# Altium footprint library VioletofSun.PcbLib: 319 footprints (part 14 of 20)
Each footprint in its own frame and in the unit in brackets; x right, y up, seen from the top. Pads: shape width x height; smd on the part's side, far side on the other; paste and mask are expansions set on the pad; w line width, h text height; cw(c..) or ccw(c..) is an arc to the next point about the centre after c.
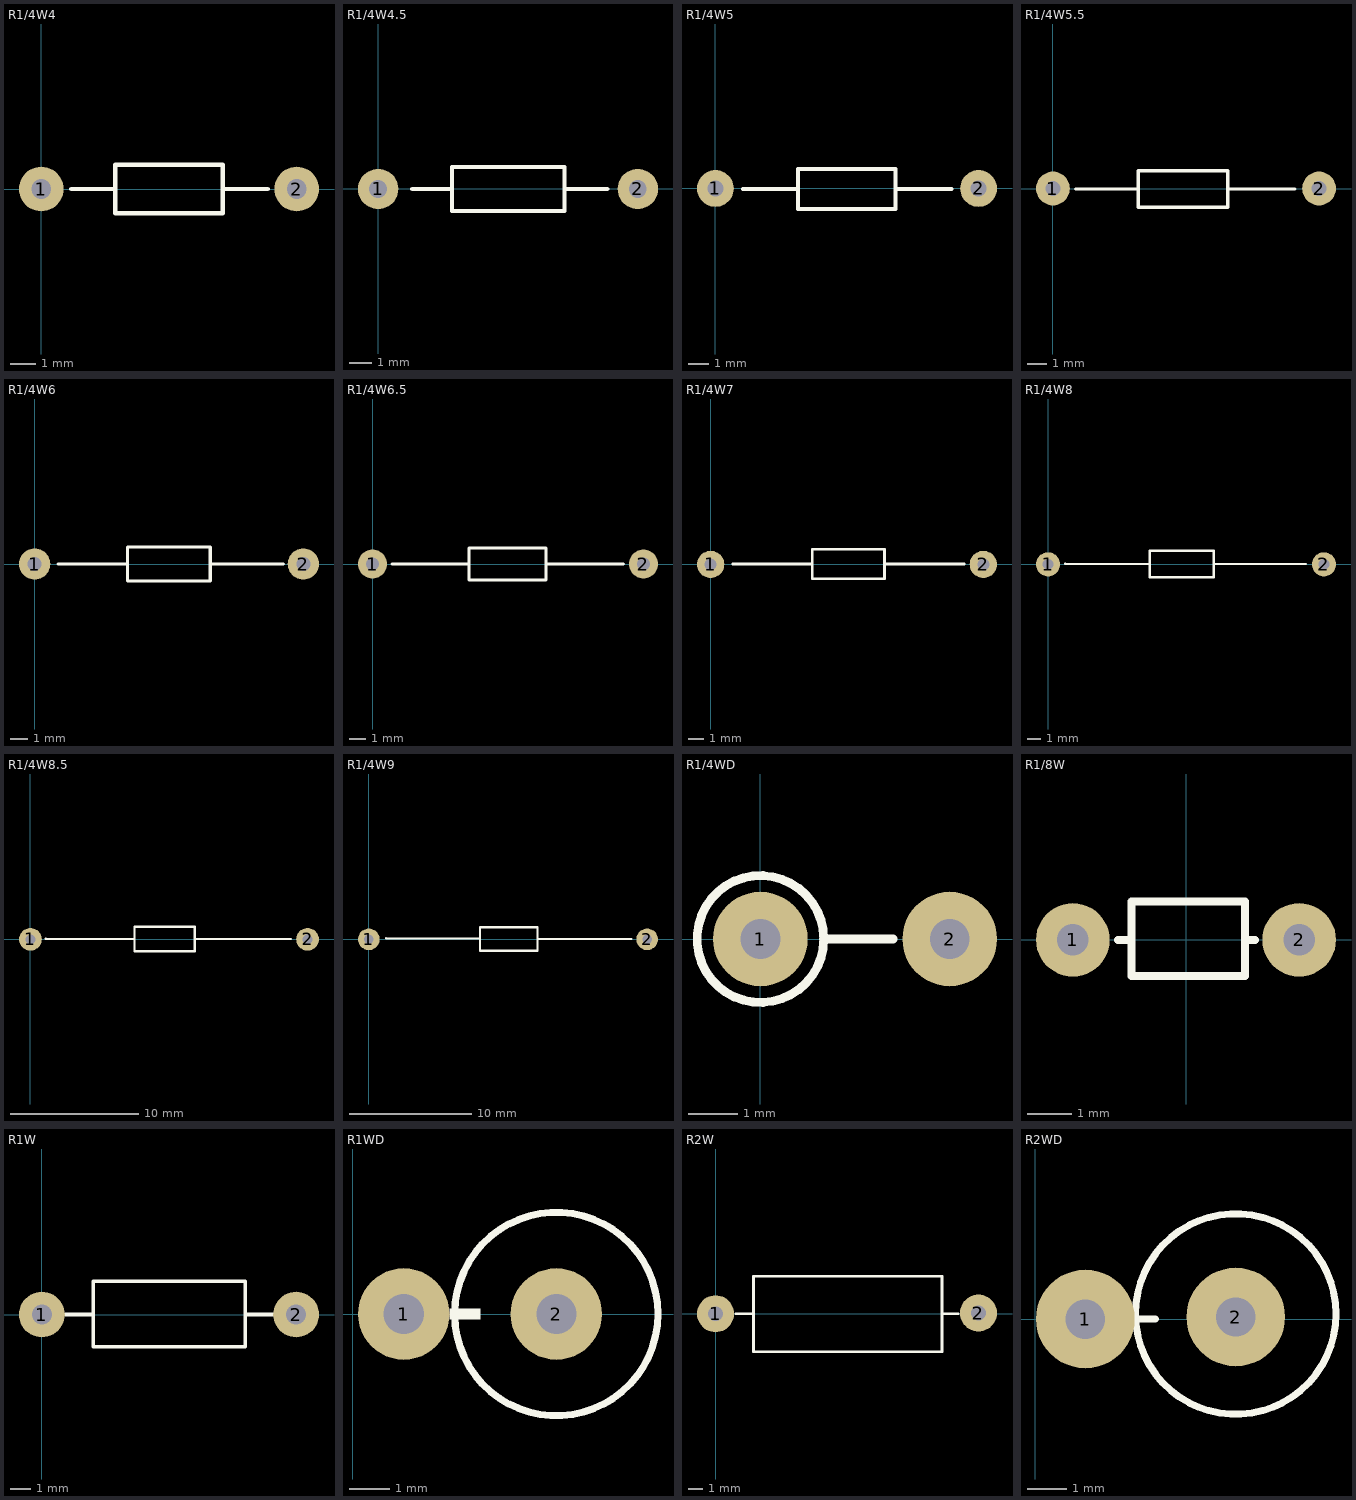
[diagram p13: the footprints below, top view; thin cyan lines are the x and y axes]

## R1/4W4 [mil] "R 1/4W, 2 Pin, 400mil"
height 100
pads (2):
  round 70 hole 31: 1(0,0) 2(400,0)
Top Overlay:
  lines w7: 47,0 116,0 ; 284,0 355,0 ; 116,-38 284,-38 284,38 116,38 116,-38
3D body: height 115.5, standoff -100, extent -12,-45 412,46

## R1/4W4.5 [mil] "R 1/4W, 2 Pin, 450mil"
height 100
pads (2):
  round 70 hole 31: 1(0,0) 2(450,0)
Top Overlay:
  lines w7: 59,0 128,0 ; 326,0 397,0 ; 128,-38 128,38 323,38 323,-38 128,-38

## R1/4W5 [mil] "R 1/4W, 2 Pin, 500mil"
height 100
pads (2):
  round 70 hole 31: 1(0,0) 2(500,0)
Top Overlay:
  lines w7: 52,-1 157,-1 ; 342,-1 449,-1 ; 157,-39 342,-39 342,37 157,37 157,-39

## R1/4W5.5 [mil] "R 1/4W, 2 Pin, 550mil"
height 100
pads (2):
  round 70 hole 31: 1(0,0) 2(550,0)
Top Overlay:
  lines w7: 47,-1 176,-1 ; 361,-1 500,-1 ; 176,-39 361,-39 361,37 176,37 176,-39

## R1/4W6 [mil] "R 1/4W, 2 Pin, 600mil"
height 100
pads (2):
  round 70 hole 31: 1(0,0) 2(600,0)
Top Overlay:
  lines w7: 52,0 207,0 ; 392,0 556,0 ; 207,-38 207,38 392,38 392,-38 207,-38

## R1/4W6.5 [mil] "R 1/4W, 2 Pin, 650mil"
height 100
pads (2):
  round 70 hole 31: 1(0,0) 2(650,0)
Top Overlay:
  lines w7: 47,0 231,0 ; 416,0 602,0 ; 231,-38 416,-38 416,38 231,38 231,-38

## R1/4W7 [mil] "R 1/4W, 2 Pin, 600mil"
height 100
pads (2):
  round 70 hole 31: 1(0,0) 2(700,0)
Top Overlay:
  lines w7: 57,1 261,1 ; 446,1 651,1 ; 261,-37 261,39 446,39 446,-37 261,-37
3D body: height 142, standoff -125, extent 4.25,-65 705.75,67

## R1/4W8 [mil] "R 1/4W, 2 Pin, 600mil"
height 100
pads (2):
  round 70 hole 31: 1(0,0) 2(800,0)
Top Overlay:
  lines w7: 50,2 295,1 ; 480,1 748,1 ; 295,-37 295,39 480,39 480,-37 295,-37

## R1/4W8.5 [mil] "R 1/4W, 2 Pin, 600mil"
height 100
pads (2):
  round 70 hole 31: 1(0,0) 2(850,0)
Top Overlay:
  lines w7: 47,2.11 319,1 ; 504,1 799,1 ; 319,-37 504,-37 504,39 319,39 319,-37

## R1/4W9 [mil] "R 1/4W, 2 Pin, 600mil"
height 100
pads (2):
  round 70 hole 31: 1(0,0) 2(900,0)
Top Overlay:
  lines w7: 56.01,3.24 360,2 ; 545,1 849,1 ; 360,-37 545,-37 545,39 360,39 360,-37

## R1/4WD [mm] "R 1/4W, 2 Pin, 150mil"
height 2.54
pads (2):
  round 1.905 hole 0.8: 1(0,0) 2(3.81,0)
Top Overlay:
  circle w0.178: c0,0 r1.276
  lines w0.178: 1.27,0 2.667,0
3D body: height 13.42, standoff -4.28, extent -1.778,-1.7 4.322,1.7

## R1/8W [mil] "R 1/8W, 2 pin, 300mil"
height 100
pads (2):
  round 65 hole 28: 1(-100,0) 2(100,0)
Top Overlay:
  lines w7: -60,0 -48,0 ; 54,0 61,0 ; -48,-32 -48,34 52,34 52,-32 -48,-32
3D body: height 86.31, standoff -68.11, extent -135,-35.48 135,37

## R1W [mil] "R 1W, 2 pin, 500mil"
height 100
pads (2):
  round 90 hole 39.37: 1(0,0) 2(500,0)
Top Overlay:
  lines w7: 46,0 101,0 ; 400,0 460,0 ; 101,0 101,65 400,65 400,-63 101,-63 101,0

## R1WD [mil] "R 1W, 2 pin, 500mil"
height 100
pads (2):
  round 90 hole 39.37: 1(50,0) 2(200,0)
Top Overlay:
  circle w7: c200,0 r100
  region: 125,5 125,-5 95,-5 95,5

## R2W [mm] "R2W, 2 pin, 700mil"
height 5.08
pads (2):
  round 2.5 hole 1: 1(0,0) 2(17.755,0.051)
Top Overlay:
  lines w0.178: 1.372,0 2.565,0 ; 15.316,0 16.383,0 ; 2.565,0 2.565,2.54 15.291,2.54 15.291,-2.565 2.565,-2.565 2.565,0
3D body: height 8.3, standoff -2, extent -2.362,-3.327 19.838,3.273

## R2WD [mm] "R2W, 2 pin, 700mil"
height 5.08
pads (2):
  round 2.5 hole 1: 1(1.27,0) 2(5.08,0.051)
Top Overlay:
  circle w0.178: c5.08,0.127 r2.54
  lines w0.178: 2.159,0 3.048,0